# Altium footprint library etc.PcbLib: 4 footprints
Each footprint in its own frame and in the unit in brackets; x right, y up, seen from the top. Pads: shape width x height; smd on the part's side, far side on the other; paste and mask are expansions set on the pad; w line width, h text height; cw(c..) or ccw(c..) is an arc to the next point about the centre after c.
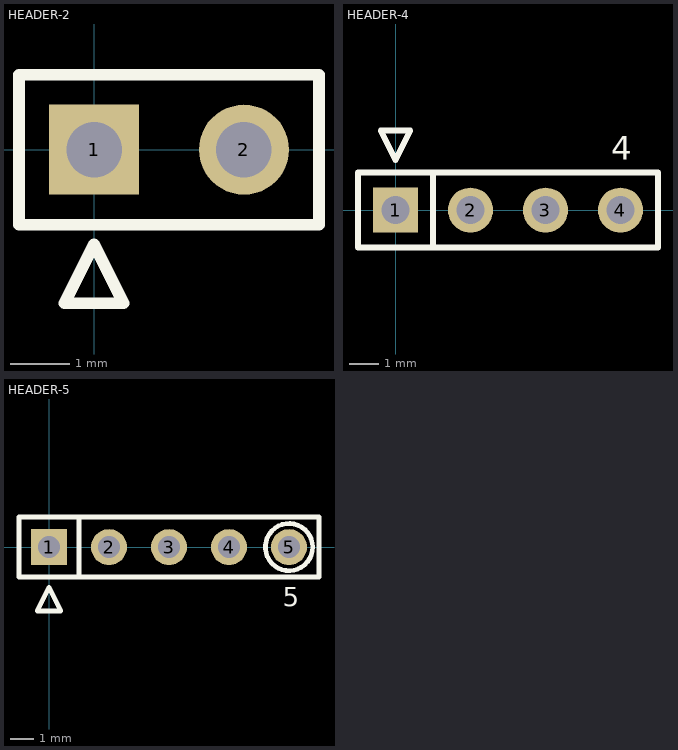
[diagram p0: the footprints below, top view; thin cyan lines are the x and y axes]

## HEADER-2 [mil]
pads (2):
  rect 60x60 hole 37: 1(0,0)
  round 60 hole 37: 2(100,0)
Top Overlay:
  lines w7.87: -50,-50 -50,50 150,50 150,-50 -50,-50 ; -19.69,-102.36 19.68,-102.36 0,-62.99 -19.69,-102.36
3D body "HDR1x2.STEP": height 330, standoff -150, extent -49.61,-51.18 150.39,48.82

## HEADER-4 [mil]
pads (4):
  rect 60x60 hole 37: 1(0,0)
  round 60 hole 37: 2(100,0) 3(200,0) 4(300,0)
Top Overlay:
  lines w7.87: 50,-50 50,50 ; -50,-50 350,-50 350,50 -50,50 -50,-50 ; -19.68,106.3 0,66.93 19.69,106.3 -19.68,106.3
  text "4" at 287.4,66.93 h31.5
3D body "HDR1x4.STEP": height 330, standoff -150, extent -50.46,-50.06 349.54,49.94

## HEADER-5 [mil]
pads (5):
  rect 60x60 hole 37: 1(0,0)
  round 60 hole 37: 2(100,0) 3(200,0) 4(300,0) 5(400,0)
Top Overlay:
  circle w7.87: c400,0 r39.37
  lines w7.87: 50,-50 50,50 ; -50,-50 450,-50 450,50 -50,50 -50,-50 ; -19.69,-106.3 19.68,-106.3 0,-66.93 -19.69,-106.3
  text "5" at 389.76,-98.43 h31.5
3D body "61300511121.stp": height 336.72, standoff -117.61, extent -49.99,-49.99 450.01,50.01

## PCBComponent_1 [mil]